# Altium footprint library BGA_Test.PcbLib: 5 footprints
Each footprint in its own frame and in the unit in brackets; x right, y up, seen from the top. Pads: shape width x height; smd on the part's side, far side on the other; paste and mask are expansions set on the pad; w line width, h text height; cw(c..) or ccw(c..) is an arc to the next point about the centre after c.
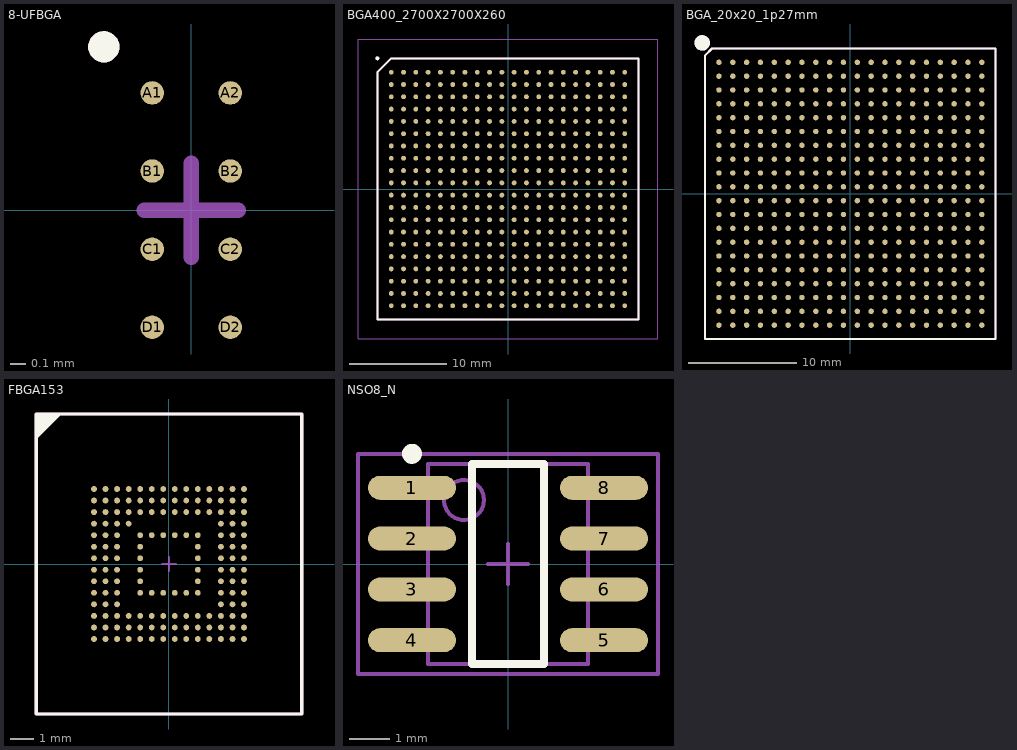
[diagram p0: the footprints below, top view; thin cyan lines are the x and y axes]

## 8-UFBGA [mm]
pads (8):
  round 0.15 smd: A1(-0.25,0.75) A2(0.25,0.75) B1(-0.25,0.25) B2(0.25,0.25) C1(-0.25,-0.25) C2(0.25,-0.25) D1(-0.25,-0.75) D2(0.25,-0.75)
Top Overlay:
  circle w0.1: c-0.56,1.045 r0.05
Mechanical 15:
  lines w0.1: -0.3,0 0.3,0 ; 0,-0.3 0,0.3
Mechanical 29:
  circle w0.1: c-0.56,1.045 r0.05
  text "'.Designator'" at 0.119,-0.916 h0.38
3D body: height 0.63, standoff 0.15, extent -0.45,-0.95 0.45,0.95

## BGA400_2700X2700X260 [mm]
pads (400):
  round 0.5 smd: A1(-12.065,12.065) A2(-10.795,12.065) A3(-9.525,12.065) A4(-8.255,12.065) A5(-6.985,12.065) A6(-5.715,12.065) A7(-4.445,12.065) A8(-3.175,12.065) A9(-1.905,12.065) A10(-0.635,12.065) A11(0.635,12.065) A12(1.905,12.065) A13(3.175,12.065) A14(4.445,12.065) A15(5.715,12.065) A16(6.985,12.065) A17(8.255,12.065) A18(9.525,12.065) A19(10.795,12.065) A20(12.065,12.065) B1(-12.065,10.795) B2(-10.795,10.795) B3(-9.525,10.795) B4(-8.255,10.795) B5(-6.985,10.795) B6(-5.715,10.795) B7(-4.445,10.795) B8(-3.175,10.795) B9(-1.905,10.795) B10(-0.635,10.795) B11(0.635,10.795) B12(1.905,10.795) B13(3.175,10.795) B14(4.445,10.795) B15(5.715,10.795) B16(6.985,10.795) B17(8.255,10.795) B18(9.525,10.795) B19(10.795,10.795) B20(12.065,10.795) C1(-12.065,9.525) C2(-10.795,9.525) C3(-9.525,9.525) C4(-8.255,9.525) C5(-6.985,9.525) C6(-5.715,9.525) C7(-4.445,9.525) C8(-3.175,9.525) C9(-1.905,9.525) C10(-0.635,9.525) C11(0.635,9.525) C12(1.905,9.525) C13(3.175,9.525) C14(4.445,9.525) C15(5.715,9.525) C16(6.985,9.525) C17(8.255,9.525) C18(9.525,9.525) C19(10.795,9.525) C20(12.065,9.525) D1(-12.065,8.255) D2(-10.795,8.255) D3(-9.525,8.255) D4(-8.255,8.255) D5(-6.985,8.255) D6(-5.715,8.255) D7(-4.445,8.255) D8(-3.175,8.255) D9(-1.905,8.255) D10(-0.635,8.255) D11(0.635,8.255) D12(1.905,8.255) D13(3.175,8.255) D14(4.445,8.255) D15(5.715,8.255) D16(6.985,8.255) D17(8.255,8.255) D18(9.525,8.255) D19(10.795,8.255) D20(12.065,8.255) E1(-12.065,6.985) E2(-10.795,6.985) E3(-9.525,6.985) E4(-8.255,6.985) E5(-6.985,6.985) E6(-5.715,6.985) E7(-4.445,6.985) E8(-3.175,6.985) E9(-1.905,6.985) E10(-0.635,6.985) E11(0.635,6.985) E12(1.905,6.985) E13(3.175,6.985) E14(4.445,6.985) E15(5.715,6.985) E16(6.985,6.985) E17(8.255,6.985) E18(9.525,6.985) E19(10.795,6.985) E20(12.065,6.985) F1(-12.065,5.715) F2(-10.795,5.715) F3(-9.525,5.715) F4(-8.255,5.715) F5(-6.985,5.715) F6(-5.715,5.715) F7(-4.445,5.715) F8(-3.175,5.715) F9(-1.905,5.715) F10(-0.635,5.715) F11(0.635,5.715) F12(1.905,5.715) F13(3.175,5.715) F14(4.445,5.715) F15(5.715,5.715) F16(6.985,5.715) F17(8.255,5.715) F18(9.525,5.715) F19(10.795,5.715) F20(12.065,5.715) G1(-12.065,4.445) G2(-10.795,4.445) G3(-9.525,4.445) G4(-8.255,4.445) G5(-6.985,4.445) G6(-5.715,4.445) G7(-4.445,4.445) G8(-3.175,4.445) G9(-1.905,4.445) G10(-0.635,4.445) G11(0.635,4.445) G12(1.905,4.445) G13(3.175,4.445) G14(4.445,4.445) G15(5.715,4.445) G16(6.985,4.445) G17(8.255,4.445) G18(9.525,4.445) G19(10.795,4.445) G20(12.065,4.445) H1(-12.065,3.175) H2(-10.795,3.175) H3(-9.525,3.175) H4(-8.255,3.175) H5(-6.985,3.175) H6(-5.715,3.175) H7(-4.445,3.175) H8(-3.175,3.175) H9(-1.905,3.175) H10(-0.635,3.175) H11(0.635,3.175) H12(1.905,3.175) H13(3.175,3.175) H14(4.445,3.175) H15(5.715,3.175) H16(6.985,3.175) H17(8.255,3.175) H18(9.525,3.175) H19(10.795,3.175) H20(12.065,3.175) J1(-12.065,1.905) J2(-10.795,1.905) J3(-9.525,1.905) J4(-8.255,1.905) J5(-6.985,1.905) J6(-5.715,1.905) J7(-4.445,1.905) J8(-3.175,1.905) J9(-1.905,1.905) J10(-0.635,1.905) J11(0.635,1.905) J12(1.905,1.905) J13(3.175,1.905) J14(4.445,1.905) J15(5.715,1.905) J16(6.985,1.905) J17(8.255,1.905) J18(9.525,1.905) J19(10.795,1.905) J20(12.065,1.905) K1(-12.065,0.635) K2(-10.795,0.635) K3(-9.525,0.635) K4(-8.255,0.635) K5(-6.985,0.635) K6(-5.715,0.635) K7(-4.445,0.635) K8(-3.175,0.635) K9(-1.905,0.635) K10(-0.635,0.635) K11(0.635,0.635) K12(1.905,0.635) K13(3.175,0.635) K14(4.445,0.635) K15(5.715,0.635) K16(6.985,0.635) K17(8.255,0.635) K18(9.525,0.635) K19(10.795,0.635) K20(12.065,0.635) L1(-12.065,-0.635) L2(-10.795,-0.635) L3(-9.525,-0.635) L4(-8.255,-0.635) L5(-6.985,-0.635) L6(-5.715,-0.635) L7(-4.445,-0.635) L8(-3.175,-0.635) L9(-1.905,-0.635) L10(-0.635,-0.635) L11(0.635,-0.635) L12(1.905,-0.635) L13(3.175,-0.635) L14(4.445,-0.635) L15(5.715,-0.635) L16(6.985,-0.635) L17(8.255,-0.635) L18(9.525,-0.635) L19(10.795,-0.635) L20(12.065,-0.635) M1(-12.065,-1.905) M2(-10.795,-1.905) M3(-9.525,-1.905) M4(-8.255,-1.905) M5(-6.985,-1.905) M6(-5.715,-1.905) M7(-4.445,-1.905) M8(-3.175,-1.905) M9(-1.905,-1.905) M10(-0.635,-1.905) M11(0.635,-1.905) M12(1.905,-1.905) M13(3.175,-1.905) M14(4.445,-1.905) M15(5.715,-1.905) M16(6.985,-1.905) M17(8.255,-1.905) M18(9.525,-1.905) M19(10.795,-1.905) M20(12.065,-1.905) N1(-12.065,-3.175) N2(-10.795,-3.175) N3(-9.525,-3.175) N4(-8.255,-3.175) N5(-6.985,-3.175) N6(-5.715,-3.175) N7(-4.445,-3.175) N8(-3.175,-3.175) N9(-1.905,-3.175) N10(-0.635,-3.175) N11(0.635,-3.175) N12(1.905,-3.175) N13(3.175,-3.175) N14(4.445,-3.175) N15(5.715,-3.175) N16(6.985,-3.175) N17(8.255,-3.175) N18(9.525,-3.175) N19(10.795,-3.175) N20(12.065,-3.175) P1(-12.065,-4.445) P2(-10.795,-4.445) P3(-9.525,-4.445) P4(-8.255,-4.445) P5(-6.985,-4.445) P6(-5.715,-4.445) P7(-4.445,-4.445) P8(-3.175,-4.445) P9(-1.905,-4.445) P10(-0.635,-4.445) P11(0.635,-4.445) P12(1.905,-4.445) P13(3.175,-4.445) P14(4.445,-4.445) P15(5.715,-4.445) P16(6.985,-4.445) P17(8.255,-4.445) P18(9.525,-4.445) P19(10.795,-4.445) P20(12.065,-4.445) R1(-12.065,-5.715) R2(-10.795,-5.715) R3(-9.525,-5.715) R4(-8.255,-5.715) R5(-6.985,-5.715) R6(-5.715,-5.715) R7(-4.445,-5.715) R8(-3.175,-5.715) R9(-1.905,-5.715) R10(-0.635,-5.715) R11(0.635,-5.715) R12(1.905,-5.715) R13(3.175,-5.715) R14(4.445,-5.715) R15(5.715,-5.715) R16(6.985,-5.715) R17(8.255,-5.715) R18(9.525,-5.715) R19(10.795,-5.715) R20(12.065,-5.715) T1(-12.065,-6.985) T2(-10.795,-6.985) T3(-9.525,-6.985) T4(-8.255,-6.985) T5(-6.985,-6.985) T6(-5.715,-6.985) T7(-4.445,-6.985) T8(-3.175,-6.985) T9(-1.905,-6.985) T10(-0.635,-6.985) T11(0.635,-6.985) T12(1.905,-6.985) T13(3.175,-6.985) T14(4.445,-6.985) T15(5.715,-6.985) T16(6.985,-6.985) T17(8.255,-6.985) T18(9.525,-6.985) T19(10.795,-6.985) T20(12.065,-6.985) U1(-12.065,-8.255) U2(-10.795,-8.255) U3(-9.525,-8.255) U4(-8.255,-8.255) U5(-6.985,-8.255) U6(-5.715,-8.255) U7(-4.445,-8.255) U8(-3.175,-8.255) U9(-1.905,-8.255) U10(-0.635,-8.255) U11(0.635,-8.255) U12(1.905,-8.255) U13(3.175,-8.255) U14(4.445,-8.255) U15(5.715,-8.255) U16(6.985,-8.255) U17(8.255,-8.255) U18(9.525,-8.255) U19(10.795,-8.255) U20(12.065,-8.255) V1(-12.065,-9.525) V2(-10.795,-9.525) V3(-9.525,-9.525) V4(-8.255,-9.525) V5(-6.985,-9.525) V6(-5.715,-9.525) V7(-4.445,-9.525) V8(-3.175,-9.525) V9(-1.905,-9.525) V10(-0.635,-9.525) V11(0.635,-9.525) V12(1.905,-9.525) V13(3.175,-9.525) V14(4.445,-9.525) V15(5.715,-9.525) V16(6.985,-9.525) V17(8.255,-9.525) V18(9.525,-9.525) V19(10.795,-9.525) V20(12.065,-9.525) W1(-12.065,-10.795) W2(-10.795,-10.795) W3(-9.525,-10.795) W4(-8.255,-10.795) W5(-6.985,-10.795) W6(-5.715,-10.795) W7(-4.445,-10.795) W8(-3.175,-10.795) W9(-1.905,-10.795) W10(-0.635,-10.795) W11(0.635,-10.795) W12(1.905,-10.795) W13(3.175,-10.795) W14(4.445,-10.795) W15(5.715,-10.795) W16(6.985,-10.795) W17(8.255,-10.795) W18(9.525,-10.795) W19(10.795,-10.795) W20(12.065,-10.795) Y1(-12.065,-12.065) Y2(-10.795,-12.065) Y3(-9.525,-12.065) Y4(-8.255,-12.065) Y5(-6.985,-12.065) Y6(-5.715,-12.065) Y7(-4.445,-12.065) Y8(-3.175,-12.065) Y9(-1.905,-12.065) Y10(-0.635,-12.065) Y11(0.635,-12.065) Y12(1.905,-12.065) Y13(3.175,-12.065) Y14(4.445,-12.065) Y15(5.715,-12.065) Y16(6.985,-12.065) Y17(8.255,-12.065) Y18(9.525,-12.065) Y19(10.795,-12.065) Y20(12.065,-12.065)
Top Overlay:
  circle w0.2: c-13.5,13.5 r0.1
  lines w0.2: -13.5,-13.5 13.5,-13.5 13.5,13.5 -12.065,13.5 -13.5,12.065 -13.5,-13.5
Mechanical 15:
  lines w0.05: -15.5,-15.5 15.5,-15.5 15.5,15.5 -15.5,15.5 -15.5,-15.5
Mechanical 29:
  circle w0.2: c-13.5,13.5 r0.1
  lines w0.2: -13.5,-13.5 13.5,-13.5 13.5,13.5 -12.065,13.5 -13.5,12.065 -13.5,-13.5
  text "'.Designator'" at -6.143,-0.574 h2.54
3D body "OSD3358-512M-BAS.stp": height 2.6, standoff 0, extent -13.5,-13.5 13.5,13.5

## BGA_20x20_1p27mm [mm] "CSIP"
height 2.6
pads (400):
  round 0.5 smd paste+0 mask+0.05: A1(-12.065,12.065) A2(-10.795,12.065) A3(-9.525,12.065) A4(-8.255,12.065) A5(-6.985,12.065) A6(-5.715,12.065) A7(-4.445,12.065) A8(-3.175,12.065) A9(-1.905,12.065) A10(-0.635,12.065) A11(0.635,12.065) A12(1.905,12.065) A13(3.175,12.065) A14(4.445,12.065) A15(5.715,12.065) A16(6.985,12.065) A17(8.255,12.065) A18(9.525,12.065) A19(10.795,12.065) A20(12.065,12.065) B1(-12.065,10.795) B2(-10.795,10.795) B3(-9.525,10.795) B4(-8.255,10.795) B5(-6.985,10.795) B6(-5.715,10.795) B7(-4.445,10.795) B8(-3.175,10.795) B9(-1.905,10.795) B10(-0.635,10.795) B11(0.635,10.795) B12(1.905,10.795) B13(3.175,10.795) B14(4.445,10.795) B15(5.715,10.795) B16(6.985,10.795) B17(8.255,10.795) B18(9.525,10.795) B19(10.795,10.795) B20(12.065,10.795) C1(-12.065,9.525) C2(-10.795,9.525) C3(-9.525,9.525) C4(-8.255,9.525) C5(-6.985,9.525) C6(-5.715,9.525) C7(-4.445,9.525) C8(-3.175,9.525) C9(-1.905,9.525) C10(-0.635,9.525) C11(0.635,9.525) C12(1.905,9.525) C13(3.175,9.525) C14(4.445,9.525) C15(5.715,9.525) C16(6.985,9.525) C17(8.255,9.525) C18(9.525,9.525) C19(10.795,9.525) C20(12.065,9.525) D1(-12.065,8.255) D2(-10.795,8.255) D3(-9.525,8.255) D4(-8.255,8.255) D5(-6.985,8.255) D6(-5.715,8.255) D7(-4.445,8.255) D8(-3.175,8.255) D9(-1.905,8.255) D10(-0.635,8.255) D11(0.635,8.255) D12(1.905,8.255) D13(3.175,8.255) D14(4.445,8.255) D15(5.715,8.255) D16(6.985,8.255) D17(8.255,8.255) D18(9.525,8.255) D19(10.795,8.255) D20(12.065,8.255) E1(-12.065,6.985) E2(-10.795,6.985) E3(-9.525,6.985) E4(-8.255,6.985) E5(-6.985,6.985) E6(-5.715,6.985) E7(-4.445,6.985) E8(-3.175,6.985) E9(-1.905,6.985) E10(-0.635,6.985) E11(0.635,6.985) E12(1.905,6.985) E13(3.175,6.985) E14(4.445,6.985) E15(5.715,6.985) E16(6.985,6.985) E17(8.255,6.985) E18(9.525,6.985) E19(10.795,6.985) E20(12.065,6.985) F1(-12.065,5.715) F2(-10.795,5.715) F3(-9.525,5.715) F4(-8.255,5.715) F5(-6.985,5.715) F6(-5.715,5.715) F7(-4.445,5.715) F8(-3.175,5.715) F9(-1.905,5.715) F10(-0.635,5.715) F11(0.635,5.715) F12(1.905,5.715) F13(3.175,5.715) F14(4.445,5.715) F15(5.715,5.715) F16(6.985,5.715) F17(8.255,5.715) F18(9.525,5.715) F19(10.795,5.715) F20(12.065,5.715) G1(-12.065,4.445) G2(-10.795,4.445) G3(-9.525,4.445) G4(-8.255,4.445) G5(-6.985,4.445) G6(-5.715,4.445) G7(-4.445,4.445) G8(-3.175,4.445) G9(-1.905,4.445) G10(-0.635,4.445) G11(0.635,4.445) G12(1.905,4.445) G13(3.175,4.445) G14(4.445,4.445) G15(5.715,4.445) G16(6.985,4.445) G17(8.255,4.445) G18(9.525,4.445) G19(10.795,4.445) G20(12.065,4.445) H1(-12.065,3.175) H2(-10.795,3.175) H3(-9.525,3.175) H4(-8.255,3.175) H5(-6.985,3.175) H6(-5.715,3.175) H7(-4.445,3.175) H8(-3.175,3.175) H9(-1.905,3.175) H10(-0.635,3.175) H11(0.635,3.175) H12(1.905,3.175) H13(3.175,3.175) H14(4.445,3.175) H15(5.715,3.175) H16(6.985,3.175) H17(8.255,3.175) H18(9.525,3.175) H19(10.795,3.175) H20(12.065,3.175) J1(-12.065,1.905) J2(-10.795,1.905) J3(-9.525,1.905) J4(-8.255,1.905) J5(-6.985,1.905) J6(-5.715,1.905) J7(-4.445,1.905) J8(-3.175,1.905) J9(-1.905,1.905) J10(-0.635,1.905) J11(0.635,1.905) J12(1.905,1.905) J13(3.175,1.905) J14(4.445,1.905) J15(5.715,1.905) J16(6.985,1.905) J17(8.255,1.905) J18(9.525,1.905) J19(10.795,1.905) J20(12.065,1.905) K1(-12.065,0.635) K2(-10.795,0.635) K3(-9.525,0.635) K4(-8.255,0.635) K5(-6.985,0.635) K6(-5.715,0.635) K7(-4.445,0.635) K8(-3.175,0.635) K9(-1.905,0.635) K10(-0.635,0.635) K11(0.635,0.635) K12(1.905,0.635) K13(3.175,0.635) K14(4.445,0.635) K15(5.715,0.635) K16(6.985,0.635) K17(8.255,0.635) K18(9.525,0.635) K19(10.795,0.635) K20(12.065,0.635) L1(-12.065,-0.635) L2(-10.795,-0.635) L3(-9.525,-0.635) L4(-8.255,-0.635) L5(-6.985,-0.635) L6(-5.715,-0.635) L7(-4.445,-0.635) L8(-3.175,-0.635) L9(-1.905,-0.635) L10(-0.635,-0.635) L11(0.635,-0.635) L12(1.905,-0.635) L13(3.175,-0.635) L14(4.445,-0.635) L15(5.715,-0.635) L16(6.985,-0.635) L17(8.255,-0.635) L18(9.525,-0.635) L19(10.795,-0.635) L20(12.065,-0.635) M1(-12.065,-1.905) M2(-10.795,-1.905) M3(-9.525,-1.905) M4(-8.255,-1.905) M5(-6.985,-1.905) M6(-5.715,-1.905) M7(-4.445,-1.905) M8(-3.175,-1.905) M9(-1.905,-1.905) M10(-0.635,-1.905) M11(0.635,-1.905) M12(1.905,-1.905) M13(3.175,-1.905) M14(4.445,-1.905) M15(5.715,-1.905) M16(6.985,-1.905) M17(8.255,-1.905) M18(9.525,-1.905) M19(10.795,-1.905) M20(12.065,-1.905) N1(-12.065,-3.175) N2(-10.795,-3.175) N3(-9.525,-3.175) N4(-8.255,-3.175) N5(-6.985,-3.175) N6(-5.715,-3.175) N7(-4.445,-3.175) N8(-3.175,-3.175) N9(-1.905,-3.175) N10(-0.635,-3.175) N11(0.635,-3.175) N12(1.905,-3.175) N13(3.175,-3.175) N14(4.445,-3.175) N15(5.715,-3.175) N16(6.985,-3.175) N17(8.255,-3.175) N18(9.525,-3.175) N19(10.795,-3.175) N20(12.065,-3.175) P1(-12.065,-4.445) P2(-10.795,-4.445) P3(-9.525,-4.445) P4(-8.255,-4.445) P5(-6.985,-4.445) P6(-5.715,-4.445) P7(-4.445,-4.445) P8(-3.175,-4.445) P9(-1.905,-4.445) P10(-0.635,-4.445) P11(0.635,-4.445) P12(1.905,-4.445) P13(3.175,-4.445) P14(4.445,-4.445) P15(5.715,-4.445) P16(6.985,-4.445) P17(8.255,-4.445) P18(9.525,-4.445) P19(10.795,-4.445) P20(12.065,-4.445) R1(-12.065,-5.715) R2(-10.795,-5.715) R3(-9.525,-5.715) R4(-8.255,-5.715) R5(-6.985,-5.715) R6(-5.715,-5.715) R7(-4.445,-5.715) R8(-3.175,-5.715) R9(-1.905,-5.715) R10(-0.635,-5.715) R11(0.635,-5.715) R12(1.905,-5.715) R13(3.175,-5.715) R14(4.445,-5.715) R15(5.715,-5.715) R16(6.985,-5.715) R17(8.255,-5.715) R18(9.525,-5.715) R19(10.795,-5.715) R20(12.065,-5.715) T1(-12.065,-6.985) T2(-10.795,-6.985) T3(-9.525,-6.985) T4(-8.255,-6.985) T5(-6.985,-6.985) T6(-5.715,-6.985) T7(-4.445,-6.985) T8(-3.175,-6.985) T9(-1.905,-6.985) T10(-0.635,-6.985) T11(0.635,-6.985) T12(1.905,-6.985) T13(3.175,-6.985) T14(4.445,-6.985) T15(5.715,-6.985) T16(6.985,-6.985) T17(8.255,-6.985) T18(9.525,-6.985) T19(10.795,-6.985) T20(12.065,-6.985) U1(-12.065,-8.255) U2(-10.795,-8.255) U3(-9.525,-8.255) U4(-8.255,-8.255) U5(-6.985,-8.255) U6(-5.715,-8.255) U7(-4.445,-8.255) U8(-3.175,-8.255) U9(-1.905,-8.255) U10(-0.635,-8.255) U11(0.635,-8.255) U12(1.905,-8.255) U13(3.175,-8.255) U14(4.445,-8.255) U15(5.715,-8.255) U16(6.985,-8.255) U17(8.255,-8.255) U18(9.525,-8.255) U19(10.795,-8.255) U20(12.065,-8.255) V1(-12.065,-9.525) V2(-10.795,-9.525) V3(-9.525,-9.525) V4(-8.255,-9.525) V5(-6.985,-9.525) V6(-5.715,-9.525) V7(-4.445,-9.525) V8(-3.175,-9.525) V9(-1.905,-9.525) V10(-0.635,-9.525) V11(0.635,-9.525) V12(1.905,-9.525) V13(3.175,-9.525) V14(4.445,-9.525) V15(5.715,-9.525) V16(6.985,-9.525) V17(8.255,-9.525) V18(9.525,-9.525) V19(10.795,-9.525) V20(12.065,-9.525) W1(-12.065,-10.795) W2(-10.795,-10.795) W3(-9.525,-10.795) W4(-8.255,-10.795) W5(-6.985,-10.795) W6(-5.715,-10.795) W7(-4.445,-10.795) W8(-3.175,-10.795) W9(-1.905,-10.795) W10(-0.635,-10.795) W11(0.635,-10.795) W12(1.905,-10.795) W13(3.175,-10.795) W14(4.445,-10.795) W15(5.715,-10.795) W16(6.985,-10.795) W17(8.255,-10.795) W18(9.525,-10.795) W19(10.795,-10.795) W20(12.065,-10.795) Y1(-12.065,-12.065) Y2(-10.795,-12.065) Y3(-9.525,-12.065) Y4(-8.255,-12.065) Y5(-6.985,-12.065) Y6(-5.715,-12.065) Y7(-4.445,-12.065) Y8(-3.175,-12.065) Y9(-1.905,-12.065) Y10(-0.635,-12.065) Y11(0.635,-12.065) Y12(1.905,-12.065) Y13(3.175,-12.065) Y14(4.445,-12.065) Y15(5.715,-12.065) Y16(6.985,-12.065) Y17(8.255,-12.065) Y18(9.525,-12.065) Y19(10.795,-12.065) Y20(12.065,-12.065)
Top Overlay:
  circle w0.7: c-13.6,13.85 r0.355
  lines w0.2: -13.335,-13.335 -13.335,12.7 -12.7,13.335 13.335,13.335 13.335,-13.335 -13.335,-13.335
Mechanical 29:
  circle w0.7: c-13.6,13.85 r0.355
  lines w0.2: -13.335,-13.335 -13.335,12.7 -12.7,13.335 13.335,13.335 13.335,-13.335 -13.335,-13.335
  text "'.Designator'" at -6.143,-0.574 h2.54
3D body: height 0.7, standoff 0, extent -11.145,-11.142 -10.445,-10.447
3D body: height 0.7, standoff 0, extent -11.145,-9.872 -10.445,-9.177
3D body: height 0.7, standoff 0, extent -11.145,-7.332 -10.445,-6.637
3D body: height 0.7, standoff 0, extent -11.145,-4.792 -10.445,-4.097
3D body: height 0.7, standoff 0, extent -11.145,-6.062 -10.445,-5.367
3D body: height 0.7, standoff 0, extent -11.145,-3.522 -10.445,-2.827
3D body: height 0.7, standoff 0, extent -11.145,-0.982 -10.445,-0.287
3D body: height 0.7, standoff 0, extent -11.145,0.288 -10.445,0.983
3D body: height 0.7, standoff 0, extent -11.145,2.828 -10.445,3.523
3D body: height 0.7, standoff 0, extent -11.145,5.368 -10.445,6.063
3D body: height 0.7, standoff 0, extent -11.145,4.098 -10.445,4.793
3D body: height 0.7, standoff 0, extent -11.145,6.638 -10.445,7.333
3D body: height 0.7, standoff 0, extent -11.145,9.178 -10.445,9.873
3D body: height 0.7, standoff 0, extent -11.145,10.448 -10.445,11.143
3D body: height 0.7, standoff 0, extent -9.875,-11.142 -9.175,-10.447
3D body: height 0.7, standoff 0, extent -9.875,-9.872 -9.175,-9.177
3D body: height 0.7, standoff 0, extent -9.875,-7.332 -9.175,-6.637
3D body: height 0.7, standoff 0, extent -9.875,-4.792 -9.175,-4.097
3D body: height 0.7, standoff 0, extent -9.875,-6.062 -9.175,-5.367
3D body: height 0.7, standoff 0, extent -9.875,-3.522 -9.175,-2.827
3D body: height 0.7, standoff 0, extent -9.875,-0.982 -9.175,-0.287
3D body: height 0.7, standoff 0, extent -9.875,0.288 -9.175,0.983
3D body: height 0.7, standoff 0, extent -9.875,2.828 -9.175,3.523
3D body: height 0.7, standoff 0, extent -9.875,5.368 -9.175,6.063
3D body: height 0.7, standoff 0, extent -9.875,4.098 -9.175,4.793
3D body: height 0.7, standoff 0, extent -9.875,6.638 -9.175,7.333
3D body: height 0.7, standoff 0, extent -9.875,9.178 -9.175,9.873
3D body: height 0.7, standoff 0, extent -9.875,10.448 -9.175,11.143
3D body: height 0.7, standoff 0, extent -7.335,-11.142 -6.635,-10.447
3D body: height 0.7, standoff 0, extent -7.335,-9.872 -6.635,-9.177
3D body: height 0.7, standoff 0, extent -7.335,-7.332 -6.635,-6.637
3D body: height 0.7, standoff 0, extent -7.335,-4.792 -6.635,-4.097
3D body: height 0.7, standoff 0, extent -7.335,-6.062 -6.635,-5.367
3D body: height 0.7, standoff 0, extent -7.335,-3.522 -6.635,-2.827
3D body: height 0.7, standoff 0, extent -7.335,-0.982 -6.635,-0.287
3D body: height 0.7, standoff 0, extent -7.335,0.288 -6.635,0.983
3D body: height 0.7, standoff 0, extent -7.335,2.828 -6.635,3.523
3D body: height 0.7, standoff 0, extent -7.335,5.368 -6.635,6.063
3D body: height 0.7, standoff 0, extent -7.335,4.098 -6.635,4.793
3D body: height 0.7, standoff 0, extent -7.335,6.638 -6.635,7.333
3D body: height 0.7, standoff 0, extent -7.335,9.178 -6.635,9.873
3D body: height 0.7, standoff 0, extent -7.335,10.448 -6.635,11.143
3D body: height 0.7, standoff 0, extent -4.795,-11.142 -4.095,-10.447
3D body: height 0.7, standoff 0, extent -6.065,-11.142 -5.365,-10.447
3D body: height 0.7, standoff 0, extent -4.795,-9.872 -4.095,-9.177
3D body: height 0.7, standoff 0, extent -6.065,-9.872 -5.365,-9.177
3D body: height 0.7, standoff 0, extent -4.795,-7.332 -4.095,-6.637
3D body: height 0.7, standoff 0, extent -6.065,-7.332 -5.365,-6.637
3D body: height 0.7, standoff 0, extent -4.795,-4.792 -4.095,-4.097
3D body: height 0.7, standoff 0, extent -6.065,-4.792 -5.365,-4.097
3D body: height 0.7, standoff 0, extent -4.795,-6.062 -4.095,-5.367
3D body: height 0.7, standoff 0, extent -6.065,-6.062 -5.365,-5.367
3D body: height 0.7, standoff 0, extent -4.795,-3.522 -4.095,-2.827
3D body: height 0.7, standoff 0, extent -6.065,-3.522 -5.365,-2.827
3D body: height 0.7, standoff 0, extent -4.795,-0.982 -4.095,-0.287
3D body: height 0.7, standoff 0, extent -6.065,-0.982 -5.365,-0.287
3D body: height 0.7, standoff 0, extent -4.795,0.288 -4.095,0.983
3D body: height 0.7, standoff 0, extent -6.065,0.288 -5.365,0.983
3D body: height 0.7, standoff 0, extent -4.795,2.828 -4.095,3.523
3D body: height 0.7, standoff 0, extent -6.065,2.828 -5.365,3.523
3D body: height 0.7, standoff 0, extent -4.795,5.368 -4.095,6.063
3D body: height 0.7, standoff 0, extent -6.065,5.368 -5.365,6.063
3D body: height 0.7, standoff 0, extent -4.795,4.098 -4.095,4.793
3D body: height 0.7, standoff 0, extent -6.065,4.098 -5.365,4.793
3D body: height 0.7, standoff 0, extent -4.795,6.638 -4.095,7.333
3D body: height 0.7, standoff 0, extent -6.065,6.638 -5.365,7.333
3D body: height 0.7, standoff 0, extent -4.795,9.178 -4.095,9.873
3D body: height 0.7, standoff 0, extent -6.065,9.178 -5.365,9.873
3D body: height 0.7, standoff 0, extent -4.795,10.448 -4.095,11.143
3D body: height 0.7, standoff 0, extent -6.065,10.448 -5.365,11.143
3D body: height 0.7, standoff 0, extent -3.525,-11.142 -2.825,-10.447
3D body: height 0.7, standoff 0, extent -3.525,-9.872 -2.825,-9.177
3D body: height 0.7, standoff 0, extent -3.525,-7.332 -2.825,-6.637
3D body: height 0.7, standoff 0, extent -3.525,-4.792 -2.825,-4.097
3D body: height 0.7, standoff 0, extent -3.525,-6.062 -2.825,-5.367
3D body: height 0.7, standoff 0, extent -3.525,-3.522 -2.825,-2.827
3D body: height 0.7, standoff 0, extent -3.525,-0.982 -2.825,-0.287
3D body: height 0.7, standoff 0, extent -3.525,0.288 -2.825,0.983
3D body: height 0.7, standoff 0, extent -3.525,2.828 -2.825,3.523
3D body: height 0.7, standoff 0, extent -3.525,5.368 -2.825,6.063
3D body: height 0.7, standoff 0, extent -3.525,4.098 -2.825,4.793
3D body: height 0.7, standoff 0, extent -3.525,6.638 -2.825,7.333
3D body: height 0.7, standoff 0, extent -3.525,9.178 -2.825,9.873
3D body: height 0.7, standoff 0, extent -3.525,10.448 -2.825,11.143
3D body: height 0.7, standoff 0, extent -0.985,-11.142 -0.285,-10.447
3D body: height 0.7, standoff 0, extent -0.985,-9.872 -0.285,-9.177
3D body: height 0.7, standoff 0, extent -0.985,-7.332 -0.285,-6.637
3D body: height 0.7, standoff 0, extent -0.985,-4.792 -0.285,-4.097
3D body: height 0.7, standoff 0, extent -0.985,-6.062 -0.285,-5.367
3D body: height 0.7, standoff 0, extent -0.985,-3.522 -0.285,-2.827
3D body: height 0.7, standoff 0, extent -0.985,-0.982 -0.285,-0.287
3D body: height 0.7, standoff 0, extent -0.985,0.288 -0.285,0.983
3D body: height 0.7, standoff 0, extent -0.985,2.828 -0.285,3.523
3D body: height 0.7, standoff 0, extent -0.985,5.368 -0.285,6.063
3D body: height 0.7, standoff 0, extent -0.985,4.098 -0.285,4.793
3D body: height 0.7, standoff 0, extent -0.985,6.638 -0.285,7.333
3D body: height 0.7, standoff 0, extent -0.985,9.178 -0.285,9.873
3D body: height 0.7, standoff 0, extent -0.985,10.448 -0.285,11.143
3D body: height 0.7, standoff 0, extent 0.285,-11.142 0.985,-10.447
3D body: height 0.7, standoff 0, extent 0.285,-9.872 0.985,-9.177
3D body: height 0.7, standoff 0, extent 0.285,-7.332 0.985,-6.637
3D body: height 0.7, standoff 0, extent 0.285,-4.792 0.985,-4.097
3D body: height 0.7, standoff 0, extent 0.285,-6.062 0.985,-5.367
3D body: height 0.7, standoff 0, extent 0.285,-3.522 0.985,-2.827
3D body: height 0.7, standoff 0, extent 0.285,-0.982 0.985,-0.287
3D body: height 0.7, standoff 0, extent 0.285,0.288 0.985,0.983
3D body: height 0.7, standoff 0, extent 0.285,2.828 0.985,3.523
3D body: height 0.7, standoff 0, extent 0.285,5.368 0.985,6.063
3D body: height 0.7, standoff 0, extent 0.285,4.098 0.985,4.793
3D body: height 0.7, standoff 0, extent 0.285,6.638 0.985,7.333
3D body: height 0.7, standoff 0, extent 0.285,9.178 0.985,9.873
3D body: height 0.7, standoff 0, extent 0.285,10.448 0.985,11.143
3D body: height 0.7, standoff 0, extent 2.825,-11.142 3.525,-10.447
3D body: height 0.7, standoff 0, extent 2.825,-9.872 3.525,-9.177
3D body: height 0.7, standoff 0, extent 2.825,-7.332 3.525,-6.637
3D body: height 0.7, standoff 0, extent 2.825,-4.792 3.525,-4.097
3D body: height 0.7, standoff 0, extent 2.825,-6.062 3.525,-5.367
3D body: height 0.7, standoff 0, extent 2.825,-3.522 3.525,-2.827
3D body: height 0.7, standoff 0, extent 2.825,-0.982 3.525,-0.287
3D body: height 0.7, standoff 0, extent 2.825,0.288 3.525,0.983
3D body: height 0.7, standoff 0, extent 2.825,2.828 3.525,3.523
3D body: height 0.7, standoff 0, extent 2.825,5.368 3.525,6.063
3D body: height 0.7, standoff 0, extent 2.825,4.098 3.525,4.793
3D body: height 0.7, standoff 0, extent 2.825,6.638 3.525,7.333
3D body: height 0.7, standoff 0, extent 2.825,9.178 3.525,9.873
3D body: height 0.7, standoff 0, extent 2.825,10.448 3.525,11.143
3D body: height 0.7, standoff 0, extent 5.365,-11.142 6.065,-10.447
3D body: height 0.7, standoff 0, extent 4.095,-11.142 4.795,-10.447
3D body: height 0.7, standoff 0, extent 5.365,-9.872 6.065,-9.177
3D body: height 0.7, standoff 0, extent 4.095,-9.872 4.795,-9.177
3D body: height 0.7, standoff 0, extent 5.365,-7.332 6.065,-6.637
3D body: height 0.7, standoff 0, extent 4.095,-7.332 4.795,-6.637
3D body: height 0.7, standoff 0, extent 5.365,-4.792 6.065,-4.097
3D body: height 0.7, standoff 0, extent 4.095,-4.792 4.795,-4.097
3D body: height 0.7, standoff 0, extent 5.365,-6.062 6.065,-5.367
3D body: height 0.7, standoff 0, extent 4.095,-6.062 4.795,-5.367
3D body: height 0.7, standoff 0, extent 5.365,-3.522 6.065,-2.827
3D body: height 0.7, standoff 0, extent 4.095,-3.522 4.795,-2.827
3D body: height 0.7, standoff 0, extent 5.365,-0.982 6.065,-0.287
3D body: height 0.7, standoff 0, extent 4.095,-0.982 4.795,-0.287
3D body: height 0.7, standoff 0, extent 5.365,0.288 6.065,0.983
3D body: height 0.7, standoff 0, extent 4.095,0.288 4.795,0.983
3D body: height 0.7, standoff 0, extent 5.365,2.828 6.065,3.523
3D body: height 0.7, standoff 0, extent 4.095,2.828 4.795,3.523
3D body: height 0.7, standoff 0, extent 5.365,5.368 6.065,6.063
3D body: height 0.7, standoff 0, extent 4.095,5.368 4.795,6.063
3D body: height 0.7, standoff 0, extent 5.365,4.098 6.065,4.793
3D body: height 0.7, standoff 0, extent 4.095,4.098 4.795,4.793
3D body: height 0.7, standoff 0, extent 5.365,6.638 6.065,7.333
3D body: height 0.7, standoff 0, extent 4.095,6.638 4.795,7.333
3D body: height 0.7, standoff 0, extent 5.365,9.178 6.065,9.873
3D body: height 0.7, standoff 0, extent 4.095,9.178 4.795,9.873
3D body: height 0.7, standoff 0, extent 5.365,10.448 6.065,11.143
3D body: height 0.7, standoff 0, extent 4.095,10.448 4.795,11.143
3D body: height 0.7, standoff 0, extent 6.635,-11.142 7.335,-10.447
3D body: height 0.7, standoff 0, extent 6.635,-9.872 7.335,-9.177
3D body: height 0.7, standoff 0, extent 6.635,-7.332 7.335,-6.637
3D body: height 0.7, standoff 0, extent 6.635,-4.792 7.335,-4.097
3D body: height 0.7, standoff 0, extent 6.635,-6.062 7.335,-5.367
3D body: height 0.7, standoff 0, extent 6.635,-3.522 7.335,-2.827
3D body: height 0.7, standoff 0, extent 6.635,-0.982 7.335,-0.287
3D body: height 0.7, standoff 0, extent 6.635,0.288 7.335,0.983
3D body: height 0.7, standoff 0, extent 6.635,2.828 7.335,3.523
3D body: height 0.7, standoff 0, extent 6.635,5.368 7.335,6.063
3D body: height 0.7, standoff 0, extent 6.635,4.098 7.335,4.793
3D body: height 0.7, standoff 0, extent 6.635,6.638 7.335,7.333
3D body: height 0.7, standoff 0, extent 6.635,9.178 7.335,9.873
3D body: height 0.7, standoff 0, extent 6.635,10.448 7.335,11.143
3D body: height 0.7, standoff 0, extent 9.175,-11.142 9.875,-10.447
3D body: height 0.7, standoff 0, extent 9.175,-9.872 9.875,-9.177
3D body: height 0.7, standoff 0, extent 9.175,-7.332 9.875,-6.637
3D body: height 0.7, standoff 0, extent 9.175,-4.792 9.875,-4.097
3D body: height 0.7, standoff 0, extent 9.175,-6.062 9.875,-5.367
3D body: height 0.7, standoff 0, extent 9.175,-3.522 9.875,-2.827
3D body: height 0.7, standoff 0, extent 9.175,-0.982 9.875,-0.287
3D body: height 0.7, standoff 0, extent 9.175,0.288 9.875,0.983
3D body: height 0.7, standoff 0, extent 9.175,2.828 9.875,3.523
3D body: height 0.7, standoff 0, extent 9.175,5.368 9.875,6.063
3D body: height 0.7, standoff 0, extent 9.175,4.098 9.875,4.793
3D body: height 0.7, standoff 0, extent 9.175,6.638 9.875,7.333
3D body: height 0.7, standoff 0, extent 9.175,9.178 9.875,9.873
3D body: height 0.7, standoff 0, extent 9.175,10.448 9.875,11.143
3D body: height 0.7, standoff 0, extent 10.445,-11.142 11.145,-10.447
3D body: height 0.7, standoff 0, extent 10.445,-9.872 11.145,-9.177
3D body: height 0.7, standoff 0, extent 10.445,-7.332 11.145,-6.637
3D body: height 0.7, standoff 0, extent 10.445,-4.792 11.145,-4.097
3D body: height 0.7, standoff 0, extent 10.445,-6.062 11.145,-5.367
3D body: height 0.7, standoff 0, extent 10.445,-3.522 11.145,-2.827
3D body: height 0.7, standoff 0, extent 10.445,-0.982 11.145,-0.287
3D body: height 0.7, standoff 0, extent 10.445,0.288 11.145,0.983
3D body: height 0.7, standoff 0, extent 10.445,2.828 11.145,3.523
3D body: height 0.7, standoff 0, extent 10.445,5.368 11.145,6.063
3D body: height 0.7, standoff 0, extent 10.445,4.098 11.145,4.793
3D body: height 0.7, standoff 0, extent 10.445,6.638 11.145,7.333
3D body: height 0.7, standoff 0, extent 10.445,9.178 11.145,9.873
3D body: height 0.7, standoff 0, extent 10.445,10.448 11.145,11.143
3D body: height 0.7, standoff 0, extent -11.145,-12.412 -10.445,-11.717
3D body: height 0.7, standoff 0, extent -11.145,-2.252 -10.445,-1.557
3D body: height 0.7, standoff 0, extent -11.145,-8.602 -10.445,-7.907
3D body: height 0.7, standoff 0, extent -11.145,1.558 -10.445,2.253
3D body: height 0.7, standoff 0, extent -11.145,11.718 -10.445,12.413
3D body: height 0.7, standoff 0, extent -11.145,7.908 -10.445,8.603
3D body: height 0.7, standoff 0, extent -9.875,-12.412 -9.175,-11.717
3D body: height 0.7, standoff 0, extent -9.875,-2.252 -9.175,-1.557
3D body: height 0.7, standoff 0, extent -9.875,-8.602 -9.175,-7.907
3D body: height 0.7, standoff 0, extent -9.875,1.558 -9.175,2.253
3D body: height 0.7, standoff 0, extent -9.875,11.718 -9.175,12.413
3D body: height 0.7, standoff 0, extent -9.875,7.908 -9.175,8.603
3D body: height 0.7, standoff 0, extent -7.335,-12.412 -6.635,-11.717
3D body: height 0.7, standoff 0, extent -7.335,-2.252 -6.635,-1.557
3D body: height 0.7, standoff 0, extent -7.335,-8.602 -6.635,-7.907
3D body: height 0.7, standoff 0, extent -7.335,1.558 -6.635,2.253
3D body: height 0.7, standoff 0, extent -7.335,11.718 -6.635,12.413
3D body: height 0.7, standoff 0, extent -7.335,7.908 -6.635,8.603
3D body: height 0.7, standoff 0, extent -4.795,-12.412 -4.095,-11.717
3D body: height 0.7, standoff 0, extent -6.065,-12.412 -5.365,-11.717
3D body: height 0.7, standoff 0, extent -4.795,-2.252 -4.095,-1.557
3D body: height 0.7, standoff 0, extent -6.065,-2.252 -5.365,-1.557
3D body: height 0.7, standoff 0, extent -4.795,-8.602 -4.095,-7.907
3D body: height 0.7, standoff 0, extent -6.065,-8.602 -5.365,-7.907
3D body: height 0.7, standoff 0, extent -4.795,1.558 -4.095,2.253
3D body: height 0.7, standoff 0, extent -6.065,1.558 -5.365,2.253
3D body: height 0.7, standoff 0, extent -6.065,11.718 -5.365,12.413
3D body: height 0.7, standoff 0, extent -4.795,11.718 -4.095,12.413
3D body: height 0.7, standoff 0, extent -4.795,7.908 -4.095,8.603
3D body: height 0.7, standoff 0, extent -6.065,7.908 -5.365,8.603
3D body: height 0.7, standoff 0, extent -3.525,-12.412 -2.825,-11.717
3D body: height 0.7, standoff 0, extent -3.525,-2.252 -2.825,-1.557
3D body: height 0.7, standoff 0, extent -3.525,-8.602 -2.825,-7.907
3D body: height 0.7, standoff 0, extent -3.525,1.558 -2.825,2.253
3D body: height 0.7, standoff 0, extent -3.525,11.718 -2.825,12.413
3D body: height 0.7, standoff 0, extent -3.525,7.908 -2.825,8.603
3D body: height 0.7, standoff 0, extent -0.985,-12.412 -0.285,-11.717
3D body: height 0.7, standoff 0, extent -0.985,-2.252 -0.285,-1.557
3D body: height 0.7, standoff 0, extent -0.985,-8.602 -0.285,-7.907
3D body: height 0.7, standoff 0, extent -0.985,1.558 -0.285,2.253
3D body: height 0.7, standoff 0, extent -0.985,11.718 -0.285,12.413
3D body: height 0.7, standoff 0, extent -0.985,7.908 -0.285,8.603
3D body: height 0.7, standoff 0, extent 0.285,-12.412 0.985,-11.717
3D body: height 0.7, standoff 0, extent 0.285,-2.252 0.985,-1.557
3D body: height 0.7, standoff 0, extent 0.285,-8.602 0.985,-7.907
3D body: height 0.7, standoff 0, extent 0.285,1.558 0.985,2.253
3D body: height 0.7, standoff 0, extent 0.285,11.718 0.985,12.413
3D body: height 0.7, standoff 0, extent 0.285,7.908 0.985,8.603
3D body: height 0.7, standoff 0, extent 2.825,-12.412 3.525,-11.717
3D body: height 0.7, standoff 0, extent 2.825,-2.252 3.525,-1.557
3D body: height 0.7, standoff 0, extent 2.825,-8.602 3.525,-7.907
3D body: height 0.7, standoff 0, extent 2.825,1.558 3.525,2.253
3D body: height 0.7, standoff 0, extent 2.825,11.718 3.525,12.413
3D body: height 0.7, standoff 0, extent 2.825,7.908 3.525,8.603
3D body: height 0.7, standoff 0, extent 5.365,-12.412 6.065,-11.717
3D body: height 0.7, standoff 0, extent 4.095,-12.412 4.795,-11.717
3D body: height 0.7, standoff 0, extent 5.365,-2.252 6.065,-1.557
3D body: height 0.7, standoff 0, extent 4.095,-2.252 4.795,-1.557
3D body: height 0.7, standoff 0, extent 5.365,-8.602 6.065,-7.907
3D body: height 0.7, standoff 0, extent 4.095,-8.602 4.795,-7.907
3D body: height 0.7, standoff 0, extent 5.365,1.558 6.065,2.253
3D body: height 0.7, standoff 0, extent 4.095,1.558 4.795,2.253
3D body: height 0.7, standoff 0, extent 4.095,11.718 4.795,12.413
3D body: height 0.7, standoff 0, extent 5.365,11.718 6.065,12.413
3D body: height 0.7, standoff 0, extent 5.365,7.908 6.065,8.603
3D body: height 0.7, standoff 0, extent 4.095,7.908 4.795,8.603
3D body: height 0.7, standoff 0, extent 6.635,-12.412 7.335,-11.717
3D body: height 0.7, standoff 0, extent 6.635,-2.252 7.335,-1.557
3D body: height 0.7, standoff 0, extent 6.635,-8.602 7.335,-7.907
3D body: height 0.7, standoff 0, extent 6.635,1.558 7.335,2.253
3D body: height 0.7, standoff 0, extent 6.635,11.718 7.335,12.413
3D body: height 0.7, standoff 0, extent 6.635,7.908 7.335,8.603
3D body: height 0.7, standoff 0, extent 9.175,-12.412 9.875,-11.717
3D body: height 0.7, standoff 0, extent 9.175,-2.252 9.875,-1.557
3D body: height 0.7, standoff 0, extent 9.175,-8.602 9.875,-7.907
3D body: height 0.7, standoff 0, extent 9.175,1.558 9.875,2.253
3D body: height 0.7, standoff 0, extent 9.175,11.718 9.875,12.413
3D body: height 0.7, standoff 0, extent 9.175,7.908 9.875,8.603
3D body: height 0.7, standoff 0, extent 10.445,-12.412 11.145,-11.717
3D body: height 0.7, standoff 0, extent 10.445,-2.252 11.145,-1.557
3D body: height 0.7, standoff 0, extent 10.445,-8.602 11.145,-7.907
3D body: height 0.7, standoff 0, extent 10.445,1.558 11.145,2.253
3D body: height 0.7, standoff 0, extent 10.445,11.718 11.145,12.413
3D body: height 0.7, standoff 0, extent 10.445,7.908 11.145,8.603
3D body: height 0.7, standoff 0, extent -12.415,-11.142 -11.715,-10.447
3D body: height 0.7, standoff 0, extent -12.415,-9.872 -11.715,-9.177
3D body: height 0.7, standoff 0, extent -12.415,-7.332 -11.715,-6.637
3D body: height 0.7, standoff 0, extent -12.415,-4.792 -11.715,-4.097
3D body: height 0.7, standoff 0, extent -12.415,-6.062 -11.715,-5.367
3D body: height 0.7, standoff 0, extent -12.415,-3.522 -11.715,-2.827
3D body: height 0.7, standoff 0, extent -12.415,-0.982 -11.715,-0.287
3D body: height 0.7, standoff 0, extent -12.415,0.288 -11.715,0.983
3D body: height 0.7, standoff 0, extent -12.415,2.828 -11.715,3.523
3D body: height 0.7, standoff 0, extent -12.415,5.368 -11.715,6.063
3D body: height 0.7, standoff 0, extent -12.415,4.098 -11.715,4.793
3D body: height 0.7, standoff 0, extent -12.415,6.638 -11.715,7.333
3D body: height 0.7, standoff 0, extent -12.415,9.178 -11.715,9.873
3D body: height 0.7, standoff 0, extent -12.415,10.448 -11.715,11.143
3D body: height 0.7, standoff 0, extent -2.255,-11.142 -1.555,-10.447
3D body: height 0.7, standoff 0, extent -8.605,-11.142 -7.905,-10.447
3D body: height 0.7, standoff 0, extent -2.255,-9.872 -1.555,-9.177
3D body: height 0.7, standoff 0, extent -8.605,-9.872 -7.905,-9.177
3D body: height 0.7, standoff 0, extent -2.255,-7.332 -1.555,-6.637
3D body: height 0.7, standoff 0, extent -8.605,-7.332 -7.905,-6.637
3D body: height 0.7, standoff 0, extent -2.255,-4.792 -1.555,-4.097
3D body: height 0.7, standoff 0, extent -8.605,-4.792 -7.905,-4.097
3D body: height 0.7, standoff 0, extent -2.255,-6.062 -1.555,-5.367
3D body: height 0.7, standoff 0, extent -8.605,-6.062 -7.905,-5.367
3D body: height 0.7, standoff 0, extent -2.255,-3.522 -1.555,-2.827
3D body: height 0.7, standoff 0, extent -8.605,-3.522 -7.905,-2.827
3D body: height 0.7, standoff 0, extent -2.255,-0.982 -1.555,-0.287
3D body: height 0.7, standoff 0, extent -8.605,-0.982 -7.905,-0.287
3D body: height 0.7, standoff 0, extent -2.255,0.288 -1.555,0.983
3D body: height 0.7, standoff 0, extent -8.605,0.288 -7.905,0.983
3D body: height 0.7, standoff 0, extent -2.255,2.828 -1.555,3.523
3D body: height 0.7, standoff 0, extent -8.605,2.828 -7.905,3.523
3D body: height 0.7, standoff 0, extent -2.255,5.368 -1.555,6.063
3D body: height 0.7, standoff 0, extent -8.605,5.368 -7.905,6.063
3D body: height 0.7, standoff 0, extent -2.255,4.098 -1.555,4.793
3D body: height 0.7, standoff 0, extent -8.605,4.098 -7.905,4.793
3D body: height 0.7, standoff 0, extent -2.255,6.638 -1.555,7.333
3D body: height 0.7, standoff 0, extent -8.605,6.638 -7.905,7.333
3D body: height 0.7, standoff 0, extent -2.255,9.178 -1.555,9.873
3D body: height 0.7, standoff 0, extent -8.605,9.178 -7.905,9.873
3D body: height 0.7, standoff 0, extent -2.255,10.448 -1.555,11.143
3D body: height 0.7, standoff 0, extent -8.605,10.448 -7.905,11.143
3D body: height 0.7, standoff 0, extent 1.555,-11.142 2.255,-10.447
3D body: height 0.7, standoff 0, extent 1.555,-9.872 2.255,-9.177
3D body: height 0.7, standoff 0, extent 1.555,-7.332 2.255,-6.637
3D body: height 0.7, standoff 0, extent 1.555,-4.792 2.255,-4.097
3D body: height 0.7, standoff 0, extent 1.555,-6.062 2.255,-5.367
3D body: height 0.7, standoff 0, extent 1.555,-3.522 2.255,-2.827
3D body: height 0.7, standoff 0, extent 1.555,-0.982 2.255,-0.287
3D body: height 0.7, standoff 0, extent 1.555,0.288 2.255,0.983
3D body: height 0.7, standoff 0, extent 1.555,2.828 2.255,3.523
3D body: height 0.7, standoff 0, extent 1.555,5.368 2.255,6.063
3D body: height 0.7, standoff 0, extent 1.555,4.098 2.255,4.793
3D body: height 0.7, standoff 0, extent 1.555,6.638 2.255,7.333
3D body: height 0.7, standoff 0, extent 1.555,9.178 2.255,9.873
3D body: height 0.7, standoff 0, extent 1.555,10.448 2.255,11.143
3D body: height 0.7, standoff 0, extent 11.715,-11.142 12.415,-10.447
3D body: height 0.7, standoff 0, extent 7.905,-11.142 8.605,-10.447
3D body: height 0.7, standoff 0, extent 11.715,-9.872 12.415,-9.177
3D body: height 0.7, standoff 0, extent 7.905,-9.872 8.605,-9.177
3D body: height 0.7, standoff 0, extent 11.715,-7.332 12.415,-6.637
3D body: height 0.7, standoff 0, extent 7.905,-7.332 8.605,-6.637
3D body: height 0.7, standoff 0, extent 11.715,-4.792 12.415,-4.097
3D body: height 0.7, standoff 0, extent 7.905,-4.792 8.605,-4.097
3D body: height 0.7, standoff 0, extent 11.715,-6.062 12.415,-5.367
3D body: height 0.7, standoff 0, extent 7.905,-6.062 8.605,-5.367
3D body: height 0.7, standoff 0, extent 11.715,-3.522 12.415,-2.827
3D body: height 0.7, standoff 0, extent 7.905,-3.522 8.605,-2.827
3D body: height 0.7, standoff 0, extent 11.715,-0.982 12.415,-0.287
3D body: height 0.7, standoff 0, extent 7.905,-0.982 8.605,-0.287
3D body: height 0.7, standoff 0, extent 11.715,0.288 12.415,0.983
3D body: height 0.7, standoff 0, extent 7.905,0.288 8.605,0.983
3D body: height 0.7, standoff 0, extent 11.715,2.828 12.415,3.523
3D body: height 0.7, standoff 0, extent 7.905,2.828 8.605,3.523
3D body: height 0.7, standoff 0, extent 11.715,5.368 12.415,6.063
3D body: height 0.7, standoff 0, extent 7.905,5.368 8.605,6.063
3D body: height 0.7, standoff 0, extent 11.715,4.098 12.415,4.793
3D body: height 0.7, standoff 0, extent 7.905,4.098 8.605,4.793
3D body: height 0.7, standoff 0, extent 11.715,6.638 12.415,7.333
3D body: height 0.7, standoff 0, extent 7.905,6.638 8.605,7.333
3D body: height 0.7, standoff 0, extent 11.715,9.178 12.415,9.873
3D body: height 0.7, standoff 0, extent 7.905,9.178 8.605,9.873
3D body: height 0.7, standoff 0, extent 11.715,10.448 12.415,11.143
3D body: height 0.7, standoff 0, extent 7.905,10.448 8.605,11.143
3D body: height 0.7, standoff 0, extent -12.415,-12.412 -11.715,-11.717
3D body: height 0.7, standoff 0, extent -12.415,-2.252 -11.715,-1.557
3D body: height 0.7, standoff 0, extent -12.415,-8.602 -11.715,-7.907
3D body: height 0.7, standoff 0, extent -12.415,1.558 -11.715,2.253
3D body: height 0.7, standoff 0, extent -12.415,11.718 -11.715,12.413
3D body: height 0.7, standoff 0, extent -12.415,7.908 -11.715,8.603
3D body: height 0.7, standoff 0, extent -2.255,-12.412 -1.555,-11.717
3D body: height 0.7, standoff 0, extent -8.605,-12.412 -7.905,-11.717
3D body: height 0.7, standoff 0, extent -2.255,-2.252 -1.555,-1.557
3D body: height 0.7, standoff 0, extent -8.605,-2.252 -7.905,-1.557
3D body: height 0.7, standoff 0, extent -2.255,-8.602 -1.555,-7.907
3D body: height 0.7, standoff 0, extent -8.605,-8.602 -7.905,-7.907
3D body: height 0.7, standoff 0, extent -2.255,1.558 -1.555,2.253
3D body: height 0.7, standoff 0, extent -8.605,1.558 -7.905,2.253
3D body: height 0.7, standoff 0, extent -8.605,11.718 -7.905,12.413
3D body: height 0.7, standoff 0, extent -2.255,11.718 -1.555,12.413
3D body: height 0.7, standoff 0, extent -2.255,7.908 -1.555,8.603
3D body: height 0.7, standoff 0, extent -8.605,7.908 -7.905,8.603
3D body: height 0.7, standoff 0, extent 1.555,-12.412 2.255,-11.717
3D body: height 0.7, standoff 0, extent 1.555,-2.252 2.255,-1.557
3D body: height 0.7, standoff 0, extent 1.555,-8.602 2.255,-7.907
3D body: height 0.7, standoff 0, extent 1.555,1.558 2.255,2.253
3D body: height 0.7, standoff 0, extent 1.555,11.718 2.255,12.413
3D body: height 0.7, standoff 0, extent 1.555,7.908 2.255,8.603
3D body: height 0.7, standoff 0, extent 11.715,-12.412 12.415,-11.717
3D body: height 0.7, standoff 0, extent 7.905,-12.412 8.605,-11.717
3D body: height 0.7, standoff 0, extent 11.715,-2.252 12.415,-1.557
3D body: height 0.7, standoff 0, extent 7.905,-2.252 8.605,-1.557
3D body: height 0.7, standoff 0, extent 11.715,-8.602 12.415,-7.907
3D body: height 0.7, standoff 0, extent 7.905,-8.602 8.605,-7.907
3D body: height 0.7, standoff 0, extent 11.715,1.558 12.415,2.253
3D body: height 0.7, standoff 0, extent 7.905,1.558 8.605,2.253
3D body: height 0.7, standoff 0, extent 7.905,11.718 8.605,12.413
3D body: height 0.7, standoff 0, extent 11.715,11.718 12.415,12.413
3D body: height 0.7, standoff 0, extent 11.715,7.908 12.415,8.603
3D body: height 0.7, standoff 0, extent 7.905,7.908 8.605,8.603
3D body: height 2.6, standoff 0.35, extent -13.5,-13.5 13.5,13.5

## FBGA153 [mm]
pads (153):
  round 0.25 smd: A1(-3.25,3.25) A2(-2.75,3.25) A3(-2.25,3.25) A4(-1.75,3.25) A5(-1.25,3.25) A6(-0.75,3.25) A7(-0.25,3.25) A8(0.25,3.25) A9(0.75,3.25) A10(1.25,3.25) A11(1.75,3.25) A12(2.25,3.25) A13(2.75,3.25) A14(3.25,3.25) B1(-3.25,2.75) B2(-2.75,2.75) B3(-2.25,2.75) B4(-1.75,2.75) B5(-1.25,2.75) B6(-0.75,2.75) B7(-0.25,2.75) B8(0.25,2.75) B9(0.75,2.75) B10(1.25,2.75) B11(1.75,2.75) B12(2.25,2.75) B13(2.75,2.75) B14(3.25,2.75) C1(-3.25,2.25) C2(-2.75,2.25) C3(-2.25,2.25) C4(-1.75,2.25) C5(-1.25,2.25) C6(-0.75,2.25) C7(-0.25,2.25) C8(0.25,2.25) C9(0.75,2.25) C10(1.25,2.25) C11(1.75,2.25) C12(2.25,2.25) C13(2.75,2.25) C14(3.25,2.25) D1(-3.25,1.75) D2(-2.75,1.75) D3(-2.25,1.75) D4(-1.75,1.75) D12(2.25,1.75) D13(2.75,1.75) D14(3.25,1.75) E1(-3.25,1.25) E2(-2.75,1.25) E3(-2.25,1.25) E5(-1.25,1.25) E6(-0.75,1.25) E7(-0.25,1.25) E8(0.25,1.25) E9(0.75,1.25) E10(1.25,1.25) E12(2.25,1.25) E13(2.75,1.25) E14(3.25,1.25) F1(-3.25,0.75) F2(-2.75,0.75) F3(-2.25,0.75) F5(-1.25,0.75) F10(1.25,0.75) F12(2.25,0.75) F13(2.75,0.75) F14(3.25,0.75) G1(-3.25,0.25) G2(-2.75,0.25) G3(-2.25,0.25) G5(-1.25,0.25) G10(1.25,0.25) G12(2.25,0.25) G13(2.75,0.25) G14(3.25,0.25) H1(-3.25,-0.25) H2(-2.75,-0.25) H3(-2.25,-0.25) H5(-1.25,-0.25) H10(1.25,-0.25) H12(2.25,-0.25) H13(2.75,-0.25) H14(3.25,-0.25) J1(-3.25,-0.75) J2(-2.75,-0.75) J3(-2.25,-0.75) J5(-1.25,-0.75) J10(1.25,-0.75) J12(2.25,-0.75) J13(2.75,-0.75) J14(3.25,-0.75) K1(-3.25,-1.25) K2(-2.75,-1.25) K3(-2.25,-1.25) K5(-1.25,-1.25) K6(-0.75,-1.25) K7(-0.25,-1.25) K8(0.25,-1.25) K9(0.75,-1.25) K10(1.25,-1.25) K12(2.25,-1.25) K13(2.75,-1.25) K14(3.25,-1.25) L1(-3.25,-1.75) L2(-2.75,-1.75) L3(-2.25,-1.75) L12(2.25,-1.75) L13(2.75,-1.75) L14(3.25,-1.75) M1(-3.25,-2.25) M2(-2.75,-2.25) M3(-2.25,-2.25) M4(-1.75,-2.25) M5(-1.25,-2.25) M6(-0.75,-2.25) M7(-0.25,-2.25) M8(0.25,-2.25) M9(0.75,-2.25) M10(1.25,-2.25) M11(1.75,-2.25) M12(2.25,-2.25) M13(2.75,-2.25) M14(3.25,-2.25) N1(-3.25,-2.75) N2(-2.75,-2.75) N3(-2.25,-2.75) N4(-1.75,-2.75) N5(-1.25,-2.75) N6(-0.75,-2.75) N7(-0.25,-2.75) N8(0.25,-2.75) N9(0.75,-2.75) N10(1.25,-2.75) N11(1.75,-2.75) N12(2.25,-2.75) N13(2.75,-2.75) N14(3.25,-2.75) P1(-3.25,-3.25) P2(-2.75,-3.25) P3(-2.25,-3.25) P4(-1.75,-3.25) P5(-1.25,-3.25) P6(-0.75,-3.25) P7(-0.25,-3.25) P8(0.25,-3.25) P9(0.75,-3.25) P10(1.25,-3.25) P11(1.75,-3.25) P12(2.25,-3.25) P13(2.75,-3.25) P14(3.25,-3.25)
Top Overlay:
  region: -4.75,6.5 -5.75,5.5 -5.75,6.5
  lines w0.15: -5.75,5.5 -4.75,6.5 ; -5.75,-6.5 5.75,-6.5 5.75,6.5 -5.75,6.5 -5.75,-6.5
Mechanical 15:
  lines w0.1: -0.3,0 0.3,0 ; 0,-0.3 0,0.3
Mechanical 29:
  region: -4.75,6.5 -5.75,5.5 -5.75,6.5
  lines w0.15: -5.75,5.5 -4.75,6.5 ; -5.75,-6.5 -5.75,6.5 5.75,6.5 5.75,-6.5 -5.75,-6.5
  text "'.Designator'" at -3.068,-0.397 h1.27
3D body: height 1, standoff 0.17, extent -5.75,-6.5 5.75,6.5

## NSO8_N [mm] "SOIC, 8-Leads, Body 4.9x3.9mm, Pitch 1.27mm, IPC Medium Density"
height 1.75
pads (8):
  oval 2.2x0.6 smd: 1(-2.4,1.905) 2(-2.4,0.635) 3(-2.4,-0.635) 4(-2.4,-1.905) 5(2.4,-1.905) 6(2.4,-0.635) 7(2.4,0.635) 8(2.4,1.905)
Top Overlay:
  circle w0.25: c-2.4,2.755 r0.125
  lines w0.2: -0.9,-2.5 0.9,-2.5 0.9,2.5 -0.9,2.5 -0.9,-2.5
Mechanical 15:
  lines w0.1: -0.5,0 0.5,0 ; 0,-0.5 0,0.5 ; -3.75,-2.75 3.75,-2.75 3.75,2.75 -3.75,2.75 -3.75,-2.75
Mechanical 29:
  circle w0.1: c-1.1,1.6 r0.5
  lines w0.1: -2,-2.5 2,-2.5 2,2.5 -2,2.5 -2,-2.5
  text "'.Designator'" at -1.822,-0.246 h1.02
3D body "AT25SF161-SSHD-B.stp": height 1.76, standoff 0.01, extent -2.997,-2.462 2.998,2.463